# Altium footprint library WE-IBTI.PcbLib: 39 footprints (part 3 of 3)
Each footprint in its own frame and in the unit in brackets; x right, y up, seen from the top. Pads: shape width x height; smd on the part's side, far side on the other; paste and mask are expansions set on the pad; w line width, h text height; cw(c..) or ccw(c..) is an arc to the next point about the centre after c.
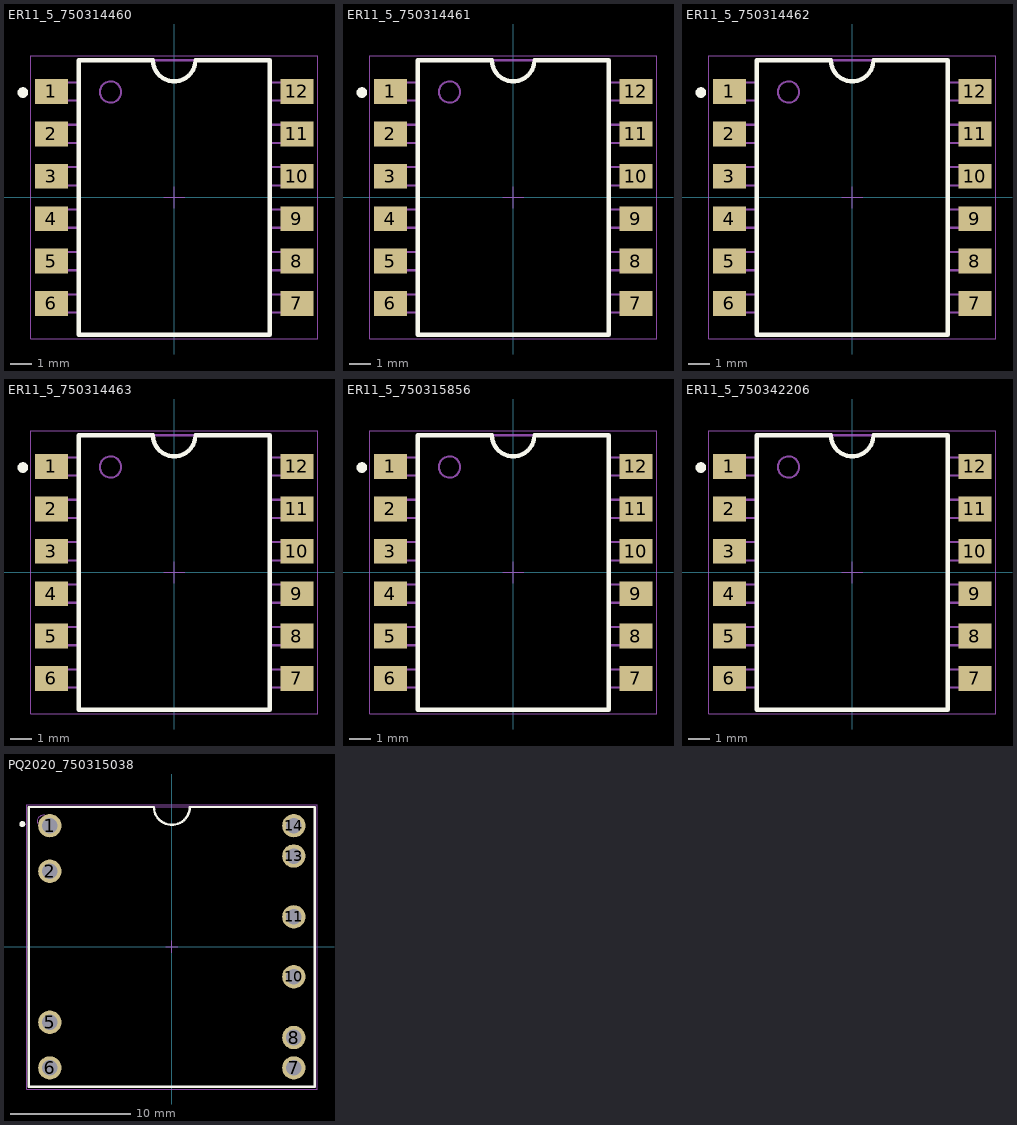
[diagram p2: the footprints below, top view; thin cyan lines are the x and y axes]

## ER11_5_750314460 [mm] "Isolated Buck Transformer, ER11.5, SMT"
height 5.98
pads (12):
  rect 1.57x1.17 smd: 1(-5.79,5) 2(-5.79,3) 3(-5.79,1) 4(-5.79,-1) 5(-5.79,-3) 6(-5.79,-5) 7(5.79,-5) 8(5.79,-3) 9(5.79,-1) 10(5.79,1) 11(5.79,3) 12(5.79,5)
Top Overlay:
  circle w0.25: c-7.14,4.95 r0.125
  lines w0.2: -4.505,-6.475 -4.505,6.475 -1,6.475 ccw(c0,6.475) 1,6.475 4.505,6.475 4.505,-6.475 -4.505,-6.475
Top Component Outline:
  circle w0.1: c-3.005,4.975 r0.5
  lines w0.1: -4.505,-5.43 -6.35,-5.43 -6.35,-4.57 -4.505,-4.57 ; -4.505,-3.43 -6.35,-3.43 -6.35,-2.57 -4.505,-2.57 ; -4.505,-1.43 -6.35,-1.43 -6.35,-0.57 -4.505,-0.57 ; -4.505,0.57 -6.35,0.57 -6.35,1.43 -4.505,1.43 ; -4.505,2.57 -6.35,2.57 -6.35,3.43 -4.505,3.43 ; -4.505,4.57 -6.35,4.57 -6.35,5.43 -4.505,5.43 ; 4.505,-5.43 6.35,-5.43 6.35,-4.57 4.505,-4.57 ; 4.505,-3.43 6.35,-3.43 6.35,-2.57 4.505,-2.57 ; 4.505,-1.43 6.35,-1.43 6.35,-0.57 4.505,-0.57 ; 4.505,0.57 6.35,0.57 6.35,1.43 4.505,1.43 ; 4.505,2.57 6.35,2.57 6.35,3.43 4.505,3.43 ; 4.505,4.57 6.35,4.57 6.35,5.43 4.505,5.43 ; -4.505,-6.475 4.505,-6.475 4.505,6.475 -4.505,6.475 -4.505,-6.475
Top Courtyard:
  lines w0.05: -6.775,-6.675 -6.775,6.675 6.775,6.675 6.775,-6.675 -6.775,-6.675
Top Component Center:
  lines w0.05: -0.5,0 0.5,0 ; 0,-0.5 0,0.5
Top Designator:
  text ".Designator" at -7.498,-0.5 h1.5
3D body "ER11.5_6058.STEP": height 5.65, standoff 0, extent -6.315,-6.277 6.165,6.223

## ER11_5_750314461 [mm] "Isolated Buck Transformer, ER11.5, SMT"
height 5.98
pads (12):
  rect 1.57x1.17 smd: 1(-5.79,5) 2(-5.79,3) 3(-5.79,1) 4(-5.79,-1) 5(-5.79,-3) 6(-5.79,-5) 7(5.79,-5) 8(5.79,-3) 9(5.79,-1) 10(5.79,1) 11(5.79,3) 12(5.79,5)
Top Overlay:
  circle w0.25: c-7.14,4.95 r0.125
  lines w0.2: -4.505,-6.475 -4.505,6.475 -1,6.475 ccw(c0,6.475) 1,6.475 4.505,6.475 4.505,-6.475 -4.505,-6.475
Top Component Outline:
  circle w0.1: c-3.005,4.975 r0.5
  lines w0.1: -4.505,-5.43 -6.35,-5.43 -6.35,-4.57 -4.505,-4.57 ; -4.505,-3.43 -6.35,-3.43 -6.35,-2.57 -4.505,-2.57 ; -4.505,-1.43 -6.35,-1.43 -6.35,-0.57 -4.505,-0.57 ; -4.505,0.57 -6.35,0.57 -6.35,1.43 -4.505,1.43 ; -4.505,2.57 -6.35,2.57 -6.35,3.43 -4.505,3.43 ; -4.505,4.57 -6.35,4.57 -6.35,5.43 -4.505,5.43 ; 4.505,-5.43 6.35,-5.43 6.35,-4.57 4.505,-4.57 ; 4.505,-3.43 6.35,-3.43 6.35,-2.57 4.505,-2.57 ; 4.505,-1.43 6.35,-1.43 6.35,-0.57 4.505,-0.57 ; 4.505,0.57 6.35,0.57 6.35,1.43 4.505,1.43 ; 4.505,2.57 6.35,2.57 6.35,3.43 4.505,3.43 ; 4.505,4.57 6.35,4.57 6.35,5.43 4.505,5.43 ; -4.505,-6.475 4.505,-6.475 4.505,6.475 -4.505,6.475 -4.505,-6.475
Top Courtyard:
  lines w0.05: -6.775,-6.675 -6.775,6.675 6.775,6.675 6.775,-6.675 -6.775,-6.675
Top Component Center:
  lines w0.05: -0.5,0 0.5,0 ; 0,-0.5 0,0.5
Top Designator:
  text ".Designator" at -7.498,-0.5 h1.5
3D body "ER11.5_6058.STEP": height 5.65, standoff 0, extent -6.315,-6.277 6.165,6.223

## ER11_5_750314462 [mm] "Isolated Buck Transformer, ER11.5, SMT"
height 5.98
pads (12):
  rect 1.57x1.17 smd: 1(-5.79,5) 2(-5.79,3) 3(-5.79,1) 4(-5.79,-1) 5(-5.79,-3) 6(-5.79,-5) 7(5.79,-5) 8(5.79,-3) 9(5.79,-1) 10(5.79,1) 11(5.79,3) 12(5.79,5)
Top Overlay:
  circle w0.25: c-7.14,4.95 r0.125
  lines w0.2: -4.505,-6.475 4.505,-6.475 4.505,6.475 1,6.475 cw(c0,6.475) -1,6.475 -4.505,6.475 -4.505,-6.475
Top Component Outline:
  circle w0.1: c-3.005,4.975 r0.5
  lines w0.1: -4.505,-5.43 -6.35,-5.43 -6.35,-4.57 -4.505,-4.57 ; -4.505,-3.43 -6.35,-3.43 -6.35,-2.57 -4.505,-2.57 ; -4.505,-1.43 -6.35,-1.43 -6.35,-0.57 -4.505,-0.57 ; -4.505,0.57 -6.35,0.57 -6.35,1.43 -4.505,1.43 ; -4.505,2.57 -6.35,2.57 -6.35,3.43 -4.505,3.43 ; -4.505,4.57 -6.35,4.57 -6.35,5.43 -4.505,5.43 ; 4.505,-5.43 6.35,-5.43 6.35,-4.57 4.505,-4.57 ; 4.505,-3.43 6.35,-3.43 6.35,-2.57 4.505,-2.57 ; 4.505,-1.43 6.35,-1.43 6.35,-0.57 4.505,-0.57 ; 4.505,0.57 6.35,0.57 6.35,1.43 4.505,1.43 ; 4.505,2.57 6.35,2.57 6.35,3.43 4.505,3.43 ; 4.505,4.57 6.35,4.57 6.35,5.43 4.505,5.43 ; -4.505,-6.475 -4.505,6.475 4.505,6.475 4.505,-6.475 -4.505,-6.475
Top Courtyard:
  lines w0.05: -6.775,-6.675 6.775,-6.675 6.775,6.675 -6.775,6.675 -6.775,-6.675
Top Component Center:
  lines w0.05: -0.5,0 0.5,0 ; 0,-0.5 0,0.5
Top Designator:
  text ".Designator" at -7.498,-0.5 h1.5
3D body "ER11.5_6058.STEP": height 5.65, standoff 0, extent -6.315,-6.277 6.165,6.223

## ER11_5_750314463 [mm] "Isolated Buck Transformer, ER11.5, SMT"
height 5.98
pads (12):
  rect 1.57x1.17 smd: 1(-5.79,5) 2(-5.79,3) 3(-5.79,1) 4(-5.79,-1) 5(-5.79,-3) 6(-5.79,-5) 7(5.79,-5) 8(5.79,-3) 9(5.79,-1) 10(5.79,1) 11(5.79,3) 12(5.79,5)
Top Overlay:
  circle w0.25: c-7.14,4.95 r0.125
  lines w0.2: -4.505,-6.475 -4.505,6.475 -1,6.475 ccw(c0,6.475) 1,6.475 4.505,6.475 4.505,-6.475 -4.505,-6.475
Top Component Outline:
  circle w0.1: c-3.005,4.975 r0.5
  lines w0.1: -4.505,-5.43 -6.35,-5.43 -6.35,-4.57 -4.505,-4.57 ; -4.505,-3.43 -6.35,-3.43 -6.35,-2.57 -4.505,-2.57 ; -4.505,-1.43 -6.35,-1.43 -6.35,-0.57 -4.505,-0.57 ; -4.505,0.57 -6.35,0.57 -6.35,1.43 -4.505,1.43 ; -4.505,2.57 -6.35,2.57 -6.35,3.43 -4.505,3.43 ; -4.505,4.57 -6.35,4.57 -6.35,5.43 -4.505,5.43 ; 4.505,-5.43 6.35,-5.43 6.35,-4.57 4.505,-4.57 ; 4.505,-3.43 6.35,-3.43 6.35,-2.57 4.505,-2.57 ; 4.505,-1.43 6.35,-1.43 6.35,-0.57 4.505,-0.57 ; 4.505,0.57 6.35,0.57 6.35,1.43 4.505,1.43 ; 4.505,2.57 6.35,2.57 6.35,3.43 4.505,3.43 ; 4.505,4.57 6.35,4.57 6.35,5.43 4.505,5.43 ; -4.505,-6.475 4.505,-6.475 4.505,6.475 -4.505,6.475 -4.505,-6.475
Top Courtyard:
  lines w0.05: -6.775,-6.675 -6.775,6.675 6.775,6.675 6.775,-6.675 -6.775,-6.675
Top Component Center:
  lines w0.05: -0.5,0 0.5,0 ; 0,-0.5 0,0.5
Top Designator:
  text ".Designator" at -7.498,-0.5 h1.5
3D body "ER11.5_6058.STEP": height 5.65, standoff 0, extent -6.315,-6.277 6.165,6.223

## ER11_5_750315856 [mm] "Isolated Buck Transformer, ER11.5, SMT"
height 5.98
pads (12):
  rect 1.57x1.17 smd: 1(-5.79,5) 2(-5.79,3) 3(-5.79,1) 4(-5.79,-1) 5(-5.79,-3) 6(-5.79,-5) 7(5.79,-5) 8(5.79,-3) 9(5.79,-1) 10(5.79,1) 11(5.79,3) 12(5.79,5)
Top Overlay:
  circle w0.25: c-7.14,4.95 r0.125
  lines w0.2: -4.505,-6.475 -4.505,6.475 -1,6.475 ccw(c0,6.475) 1,6.475 4.505,6.475 4.505,-6.475 -4.505,-6.475
Top Component Outline:
  circle w0.1: c-3.005,4.975 r0.5
  lines w0.1: -4.505,-5.43 -6.35,-5.43 -6.35,-4.57 -4.505,-4.57 ; -4.505,-3.43 -6.35,-3.43 -6.35,-2.57 -4.505,-2.57 ; -4.505,-1.43 -6.35,-1.43 -6.35,-0.57 -4.505,-0.57 ; -4.505,0.57 -6.35,0.57 -6.35,1.43 -4.505,1.43 ; -4.505,2.57 -6.35,2.57 -6.35,3.43 -4.505,3.43 ; -4.505,4.57 -6.35,4.57 -6.35,5.43 -4.505,5.43 ; 4.505,-5.43 6.35,-5.43 6.35,-4.57 4.505,-4.57 ; 4.505,-3.43 6.35,-3.43 6.35,-2.57 4.505,-2.57 ; 4.505,-1.43 6.35,-1.43 6.35,-0.57 4.505,-0.57 ; 4.505,0.57 6.35,0.57 6.35,1.43 4.505,1.43 ; 4.505,2.57 6.35,2.57 6.35,3.43 4.505,3.43 ; 4.505,4.57 6.35,4.57 6.35,5.43 4.505,5.43 ; -4.505,-6.475 4.505,-6.475 4.505,6.475 -4.505,6.475 -4.505,-6.475
Top Courtyard:
  lines w0.05: -6.775,-6.675 -6.775,6.675 6.775,6.675 6.775,-6.675 -6.775,-6.675
Top Component Center:
  lines w0.05: -0.5,0 0.5,0 ; 0,-0.5 0,0.5
Top Designator:
  text ".Designator" at -7.498,-0.5 h1.5
3D body "ER11.5_6058.STEP": height 5.65, standoff 0, extent -6.315,-6.277 6.165,6.223

## ER11_5_750342206 [mm] "Isolated Buck Transformer, ER11.5, SMT"
height 5.98
pads (12):
  rect 1.57x1.17 smd: 1(-5.79,5) 2(-5.79,3) 3(-5.79,1) 4(-5.79,-1) 5(-5.79,-3) 6(-5.79,-5) 7(5.79,-5) 8(5.79,-3) 9(5.79,-1) 10(5.79,1) 11(5.79,3) 12(5.79,5)
Top Overlay:
  circle w0.25: c-7.14,4.95 r0.125
  lines w0.2: -4.505,-6.475 4.505,-6.475 4.505,6.475 1,6.475 cw(c0,6.475) -1,6.475 -4.505,6.475 -4.505,-6.475
Top Component Outline:
  circle w0.1: c-3.005,4.975 r0.5
  lines w0.1: -4.505,-5.43 -6.35,-5.43 -6.35,-4.57 -4.505,-4.57 ; -4.505,-3.43 -6.35,-3.43 -6.35,-2.57 -4.505,-2.57 ; -4.505,-1.43 -6.35,-1.43 -6.35,-0.57 -4.505,-0.57 ; -4.505,0.57 -6.35,0.57 -6.35,1.43 -4.505,1.43 ; -4.505,2.57 -6.35,2.57 -6.35,3.43 -4.505,3.43 ; -4.505,4.57 -6.35,4.57 -6.35,5.43 -4.505,5.43 ; 4.505,-5.43 6.35,-5.43 6.35,-4.57 4.505,-4.57 ; 4.505,-3.43 6.35,-3.43 6.35,-2.57 4.505,-2.57 ; 4.505,-1.43 6.35,-1.43 6.35,-0.57 4.505,-0.57 ; 4.505,0.57 6.35,0.57 6.35,1.43 4.505,1.43 ; 4.505,2.57 6.35,2.57 6.35,3.43 4.505,3.43 ; 4.505,4.57 6.35,4.57 6.35,5.43 4.505,5.43 ; -4.505,-6.475 -4.505,6.475 4.505,6.475 4.505,-6.475 -4.505,-6.475
Top Courtyard:
  lines w0.05: -6.775,-6.675 6.775,-6.675 6.775,6.675 -6.775,6.675 -6.775,-6.675
Top Component Center:
  lines w0.05: -0.5,0 0.5,0 ; 0,-0.5 0,0.5
Top Designator:
  text ".Designator" at -7.498,-0.5 h1.5
3D body "ER11.5_6058.STEP": height 5.65, standoff 0, extent -6.315,-6.277 6.165,6.223

## PQ2020_750315038 [mm] "Isolated Buck Transformer, PQ2020, THT"
height 24.14
pads (10):
  round 1.95 hole 1.3: 1(-10.19,10.12) 2(-10.19,6.31) 5(-10.19,-6.31) 6(-10.19,-10.12) 7(10.19,-10.12) 8(10.19,-7.58) 10(10.19,-2.5) 11(10.19,2.5) 13(10.19,7.58) 14(10.19,10.12)
Top Overlay:
  circle w0.25: c-12.49,10.25 r0.125
  lines w0.2: -11.94,-11.68 11.94,-11.68 11.94,11.68 1.5,11.68 cw(c0,11.68) -1.5,11.68 -11.94,11.68 -11.94,-11.68
Top Component Outline:
  circle w0.1: c-10.74,10.48 r0.5
  lines w0.1: -11.94,-11.68 11.94,-11.68 11.94,11.68 -11.94,11.68 -11.94,-11.68
Top Courtyard:
  lines w0.05: -12.14,-11.88 -12.14,11.88 12.14,11.88 12.14,-11.88 -12.14,-11.88
Top Component Center:
  lines w0.05: -0.5,0 0.5,0 ; 0,-0.5 0,0.5
Top Designator:
  text ".Designator" at -7.498,-0.5 h1.5
3D body "PQ2020-6369-1175_MP3-4-9-12.STEP": height 22.44, standoff -3.86, extent -11.5,-11.5 11.5,11.5